# Altium schematic symbol library EFR32BG13P732F512GM48-D.SchLib: 1 symbol
Pins are listed as number, name and electrical type; pins without a type are passive.

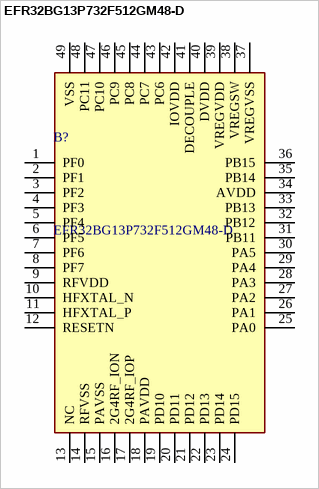
[diagram p0: symbol EFR32BG13P732F512GM48-D]

## EFR32BG13P732F512GM48-D
designator B?
SILICON LABS - EFR32BG13P732F512GM48-D - Microcontroller Application Specific, EFR32BG Series, ARM Cortex-M4, 32bit, 512KB, 40MHz, QFN-48; Geometry.Height: 0.9mm; Mouser Part Number: 634-BGP732F512GM48D; Mouser Price/Stock: https://www.mouser.co.uk/ProductDetail/Silicon-Labs/EFR32BG13P732F512GM48-D?qs=EBDBlbfErPyfv1N%2F5J4IXA%3D%3D; Manufacturer_Name: Silicon Labs; Manufacturer_Part_Number: EFR32BG13P732F512GM48-D; Datasheet Link: https://www.silabs.com/documents/public/data-sheets/efr32bg13-datasheet.pdf
footprint QFN50P700X700X90-49N-D
pins: 1 PF0, 2 PF1, 3 PF2, 4 PF3, 5 PF4, 6 PF5, 7 PF6, 8 PF7, 9 RFVDD, 10 HFXTAL_N, 11 HFXTAL_P, 12 RESETN, 13 NC, 14 RFVSS, 15 PAVSS, 16 2G4RF_ION, 17 2G4RF_IOP, 18 PAVDD, 19 PD10, 20 PD11, 21 PD12, 22 PD13, 23 PD14, 24 PD15, 25 PA0, 26 PA1, 27 PA2, 28 PA3, 29 PA4, 30 PA5, 31 PB11, 32 PB12, 33 PB13, 34 AVDD, 35 PB14, 36 PB15, 37 VREGVSS, 38 VREGSW, 39 VREGVDD, 40 DVDD, 41 DECOUPLE, 42 IOVDD, 43 PC6, 44 PC7, 45 PC8, 46 PC9, 47 PC10, 48 PC11, 49 VSS